# Altium schematic symbol library 6301 Lab 3.SchLib: 20 symbols
Pins are listed as number, name and electrical type; pins without a type are passive.

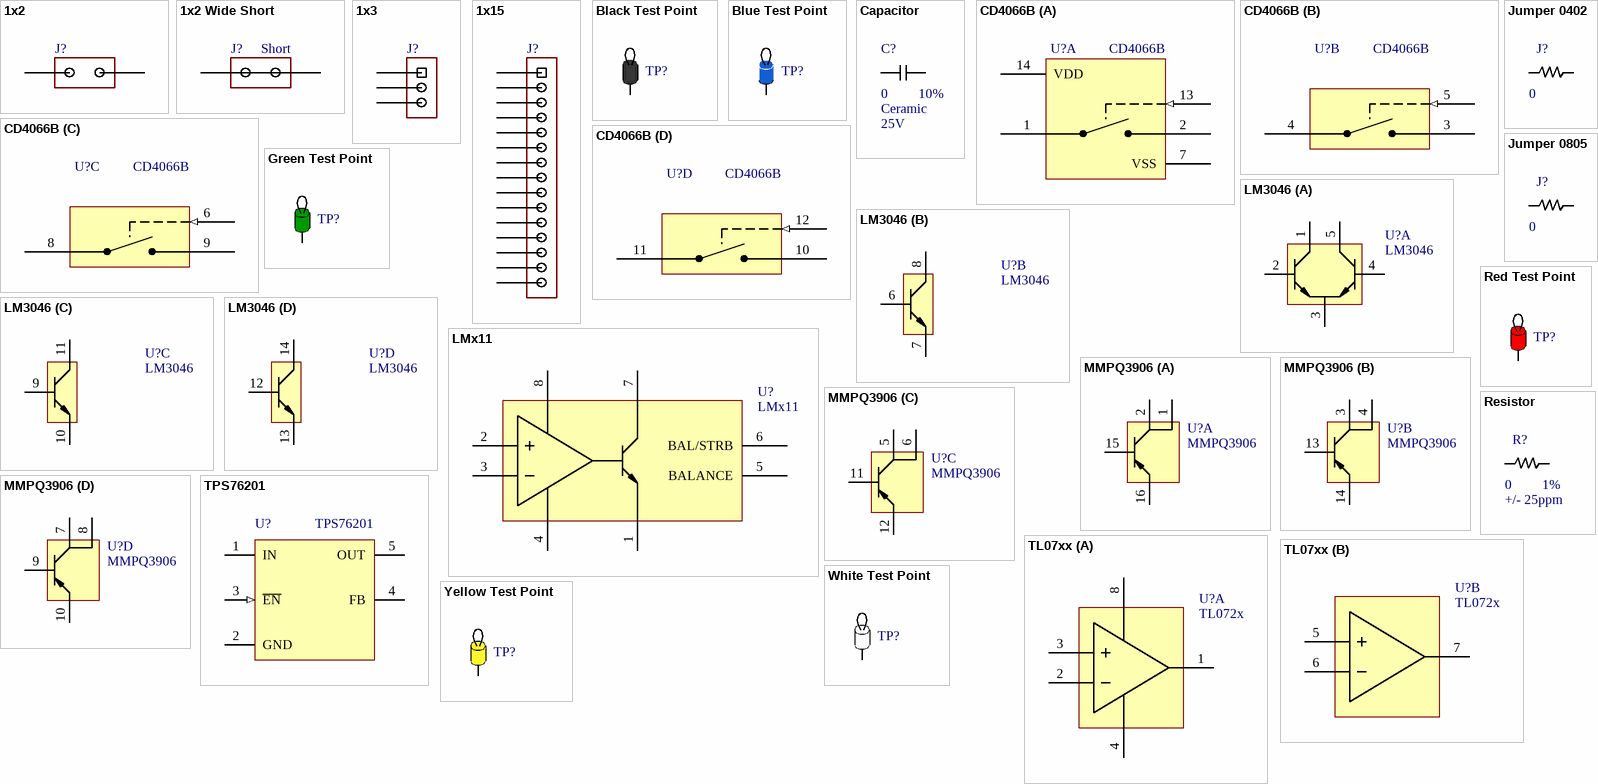
[diagram p0: symbols 1x2 to Yellow Test Point]

## 1x2
designator J?, comment Jumper  (value not drawn)
1x2 2.54mm Jumper
footprint 1X02
pins: 1, 2

## 1x2 Wide Short
designator J?, comment Short
Shorted TH pins in wide configuration
footprint 1X02_SHORT
pins: 1, 2

## 1x3
designator J?, comment Short  (value not drawn)
1x3 2.54mm Standard Connector
footprint 1X03
pins: 1, 2, 3

## 1x15
designator J?, comment Short  (value not drawn)
1x15 2.54mm Standard Connector
footprint 1x15
pins: 1, 2, 3, 4, 5, 6, 7, 8, 9, 10, 11, 12, 13, 14, 15

## Black Test Point
designator TP?, comment Black  (value not drawn)
Black Test Point
footprint TP_BLACK
pins: 1

## Blue Test Point
designator TP?, comment Blue  (value not drawn)
Blue Test Point
footprint TP_BLUE
pins: 1

## Capacitor
designator C?, comment 0  Tolerance: 10%  Type: Ceramic  Voltage: 25V
Capacitor, 0805 Package
footprint CAP0805 (Chip Resistor, 2-Leads, Body 2.00x1.25mm, IPC Medium Density)
pins: 1, 2

## CD4066B
designator U?
CMOS Quad Bilateral Switch; Manufacturer P/N: CD4066BEE4; Manufacturer: Texas Instruments; Current Rating: 10mA; Output Voltage Range: 3-18V; Operating Temperature: -55C to 125C; Digikey P/N: 296-36088-5-ND
footprint SOIC14 (SOIC, 14-Leads, Body 8.65x3.90mm, Pitch 1.27mm, IPC Medium Density)
part A pins: 1 IN_A, 2 OUT_A, 7 VSS (power), 13 EN_A (in), 14 VDD (power)
part B pins: 3 OUT_B, 4 IN_B, 5 EN_B (in)
part C pins: 6 EN_C (in), 8 IN_C, 9 OUT_C
part D pins: 10 OUT_D, 11 IN_D, 12 EN_D (in)

## Green Test Point
designator TP?, comment Green  (value not drawn)
Green Test Point
footprint TP_GREEN
pins: 1

## Jumper 0402
designator J?, comment 0
Jumper, 0402 Package
footprint JUMP0402 (Chip Resistor, 2-Leads, Body 1.00x0.50mm, IPC Medium Density)
pins: 1, 2

## Jumper 0805
designator J?, comment 0
Jumper, 0805 Package
footprint JUMP0805 (Chip Resistor, 2-Leads, Body 2.00x1.25mm, IPC Medium Density)
pins: 1, 2

## LM3046
designator U?
NPN Silicon Quad Transistor Array
footprint SOIC14 (SOIC, 14-Leads, Body 8.65x3.90mm, Pitch 1.27mm, IPC Medium Density)
part A pins: 1 Q1AC, 2 Q1AB, 3 Q1E, 4 Q1BB, 5 Q1BC
part B pins: 6 Q2B, 7 Q2E, 8 Q2C
part C pins: 9 Q3B, 10 Q3E, 11 Q3C
part D pins: 12 Q4B, 13 Q4E, 14 Q4C

## LMx11
designator U?
Single Differential Comparator; Manufacturer P/N: LM311N; Manufacturer: Texas Instruments; Operating Temperature: 0C to 70C; Digikey P/N: LM311N-ND
footprint SOIC8 (SOIC, 8-Leads, Body 4.90x3.90mm, Pitch 1.27mm, IPC Medium Density)
pins: 1 EMIT_OUT, 2 IN+, 3 IN-, 4 VCC-, 5 BALANCE, 6 BAL/STRB, 7 COL_OUT, 8 VCC+

## MMPQ3906
designator U?
PNP Silicon Quad Transistor Array
footprint SOIC16 (SOIC, 16-Leads, Body 9.90x3.90mm, Pitch 1.27mm, IPC Medium Density)
part A pins: 1 Q1C, 2 Q1C, 15 Q1B, 16 Q1E
part B pins: 3 Q2C, 4 Q1C, 13 Q2B, 14 Q2E
part C pins: 5 Q3C, 6 Q1C, 11 Q3B, 12 Q3E
part D pins: 7 Q4C, 8 Q1C, 9 Q4B, 10 Q4E

## Red Test Point
designator TP?, comment Red  (value not drawn)
Red Test Point
footprint TP_RED
pins: 1

## Resistor
designator R?, comment 0  Temp Co: +/- 25ppm  Tolerance: 1%
Resistor, 0805 Package
footprint RES0805 (Chip Resistor, 2-Leads, Body 2.00x1.25mm, IPC Medium Density)
pins: 1, 2

## TL07xx
designator U?, comment TL072x
Dual Low-Noise JFET-Input Op Amp
footprint SOIC8 (SOIC, 8-Leads, Body 4.90x3.90mm, Pitch 1.27mm, IPC Medium Density)
part A pins: 1 1OUT, 2 1IN-, 3 1IN+, 4 VCC-, 8 VCC+
part B pins: 5 2IN+, 6 2IN-, 7 2OUT

## TPS76201
designator U?
Ultralow-Power 100mA LDO Linear Regulator 0.7-5.5V
footprint SOT5 (SOT23, 5-Leads, Body 2.90x2.80mm, Pitch 0.95mm, IPC Medium Density)
pins: 1 IN, 2 GND, 3 ~{EN} (in), 4 FB, 5 OUT

## White Test Point
designator TP?, comment White  (value not drawn)
White Test Point
footprint TP_WHITE
pins: 1

## Yellow Test Point
designator TP?, comment Yellow  (value not drawn)
Yellow Test Point
footprint TP_YELLOW
pins: 1